# Altium schematic symbol library SCH - PASSIVES - INDUCTOR ARCP_CustomCoil.SCHLIB: 1 symbol
Pins are listed as number, name and electrical type; pins without a type are passive.

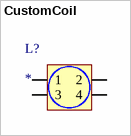
[diagram p0: symbol CustomCoil]

## CustomCoil
designator L?
pins: 1, 2, 3, 4